# Altium footprint library IC_BTN7960B.PcbLib: 1 footprints
Each footprint in its own frame and in the unit in brackets; x right, y up, seen from the top. Pads: shape width x height; smd on the part's side, far side on the other; paste and mask are expansions set on the pad; w line width, h text height; cw(c..) or ccw(c..) is an arc to the next point about the centre after c.
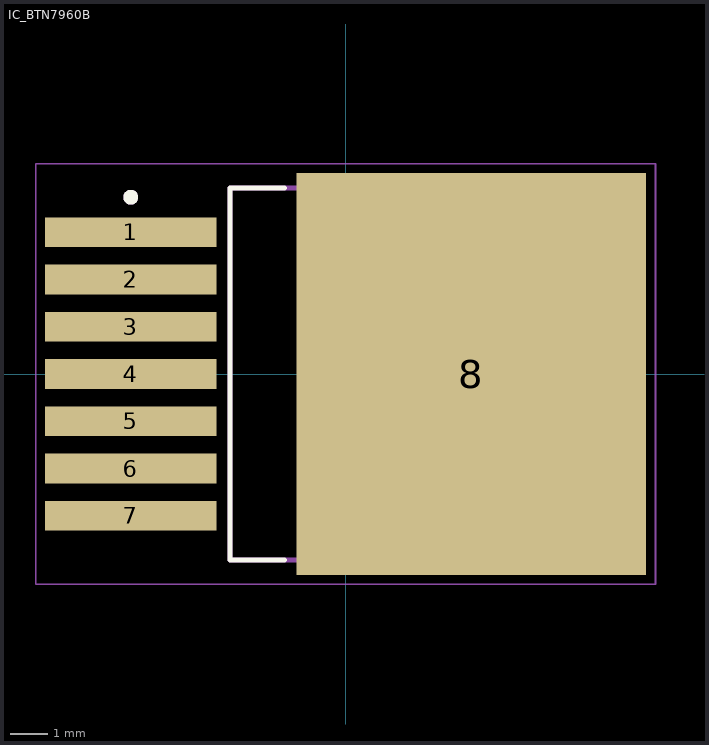
[diagram p0: the footprint, top view; thin cyan lines are the x and y axes]

## IC_BTN7960B [mm]
pads (8):
  rect 4.6x0.8 smd: 1(-5.775,3.81) 2(-5.775,2.54) 3(-5.775,1.27) 4(-5.775,0) 5(-5.775,-1.27) 6(-5.775,-2.54) 7(-5.775,-3.81)
  rect 9.4x10.8 smd paste-6: 8(3.375,0)
Top Overlay:
  circle w0.2: c-5.775,4.75 r0.1
  lines w0.127: -1.639,-5 -3.105,-5 -3.105,5 -1.639,5
Top Paste:
  region: 0.26,-5.155 -1.03,-5.155 -1.03,-3.845 0.26,-3.845
  region: 0.26,-3.355 -1.03,-3.355 -1.03,-2.045 0.26,-2.045
  region: 0.26,-1.555 -1.03,-1.555 -1.03,-0.245 0.26,-0.245
  region: 0.26,3.845 -1.03,3.845 -1.03,5.155 0.26,5.155
  region: 0.26,2.045 -1.03,2.045 -1.03,3.355 0.26,3.355
  region: 0.26,0.245 -1.03,0.245 -1.03,1.555 0.26,1.555
  region: 2.14,-5.155 0.85,-5.155 0.85,-3.845 2.14,-3.845
  region: 2.14,-3.355 0.85,-3.355 0.85,-2.045 2.14,-2.045
  region: 2.14,-1.555 0.85,-1.555 0.85,-0.245 2.14,-0.245
  region: 2.14,3.845 0.85,3.845 0.85,5.155 2.14,5.155
  region: 2.14,2.045 0.85,2.045 0.85,3.355 2.14,3.355
  region: 2.14,0.245 0.85,0.245 0.85,1.555 2.14,1.555
  region: 7.78,-5.155 6.49,-5.155 6.49,-3.845 7.78,-3.845
  region: 7.78,-3.355 6.49,-3.355 6.49,-2.045 7.78,-2.045
  region: 7.78,-1.555 6.49,-1.555 6.49,-0.245 7.78,-0.245
  region: 7.78,3.845 6.49,3.845 6.49,5.155 7.78,5.155
  region: 7.78,2.045 6.49,2.045 6.49,3.355 7.78,3.355
  region: 7.78,0.245 6.49,0.245 6.49,1.555 7.78,1.555
  region: 5.9,-5.155 4.61,-5.155 4.61,-3.845 5.9,-3.845
  region: 5.9,-3.355 4.61,-3.355 4.61,-2.045 5.9,-2.045
  region: 5.9,-1.555 4.61,-1.555 4.61,-0.245 5.9,-0.245
  region: 5.9,3.845 4.61,3.845 4.61,5.155 5.9,5.155
  region: 5.9,2.045 4.61,2.045 4.61,3.355 5.9,3.355
  region: 5.9,0.245 4.61,0.245 4.61,1.555 5.9,1.555
  region: 4.02,-5.155 2.73,-5.155 2.73,-3.845 4.02,-3.845
  region: 4.02,-3.355 2.73,-3.355 2.73,-2.045 4.02,-2.045
  region: 4.02,-1.555 2.73,-1.555 2.73,-0.245 4.02,-0.245
  region: 4.02,3.845 2.73,3.845 2.73,5.155 4.02,5.155
  region: 4.02,2.045 2.73,2.045 2.73,3.355 4.02,3.355
  region: 4.02,0.245 2.73,0.245 2.73,1.555 4.02,1.555
Mechanical 13:
  circle w0.2: c-5.775,4.75 r0.1
  lines w0.127: -3.105,-5 -3.105,5 6.155,5 6.155,-5 -3.105,-5
Mechanical 15:
  lines w0.05: -8.325,-5.65 -8.325,5.65 8.325,5.65 8.325,-5.65 -8.325,-5.65